# EAGLE library part QD803A (library _motovilo_misc)
LED controller IC
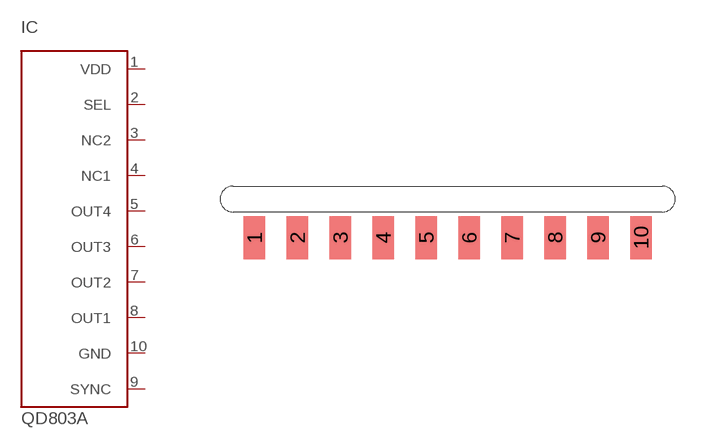
[diagram p0: symbol with the pads of QD803A; footprint QD803A]

Designator prefix IC

## QD803A  [QD803A]
1  VDD
2  SEL
3  NC2
4  NC1
5  OUT4
6  OUT3
7  OUT2
8  OUT1
9  SYNC
10  GND

## Footprint QD803A (pad centres in mm)
smd 1 x 2: 1 -9,-1.79; 2 -7,-1.79; 3 -5,-1.79; 4 -3,-1.79; 5 -1,-1.79; 6 1,-1.79; 7 3,-1.79; 8 5,-1.79; 9 7,-1.79; 10 9,-1.79